# EAGLE library part E71 (library trafo)
2x115V/2x12V 6VA (2x 0.25V) www.gutre.de BV: 002-E71 Typ: UI 30/10,5 Pollin 94-300622
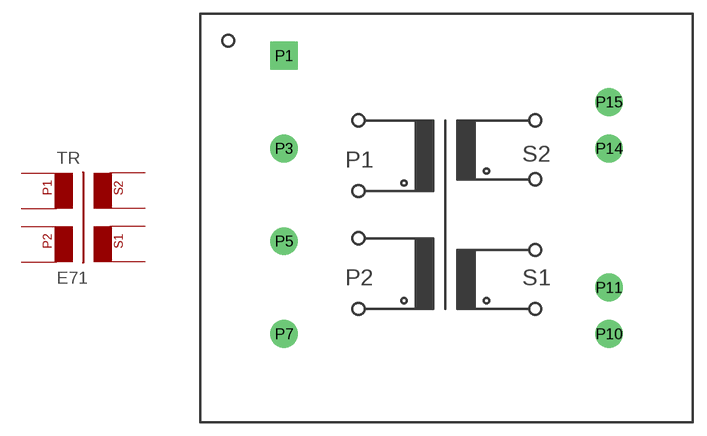
[diagram p0: symbol with the pads of 002-E71; footprint 002-E71]

Designator prefix TR

## E71  [002-E71]
P1  1  pas
P3  2  pas
P5  3  pas
P7  4  pas
P10  8  pas
P11  7  pas
P14  6  pas
P15  5  pas

## Footprint 002-E71 (pad centres in mm)
TRANSFORMER 2 primary winding, 2 secondary windings, mounting holes
drill 0.9 pad 3 square: P1 -17.5,17.5
drill 0.9 pad 3: P3 -17.5,7.5; P5 -17.5,-2.5; P7 -17.5,-12.5; P10 17.5,-12.5; P11 17.5,-7.5; P14 17.5,7.5; P15 17.5,12.5